# Altium footprint library cyusb3014.PcbLib: 5 footprints
Each footprint in its own frame and in the unit in brackets; x right, y up, seen from the top. Pads: shape width x height; smd on the part's side, far side on the other; paste and mask are expansions set on the pad; w line width, h text height; cw(c..) or ccw(c..) is an arc to the next point about the centre after c.
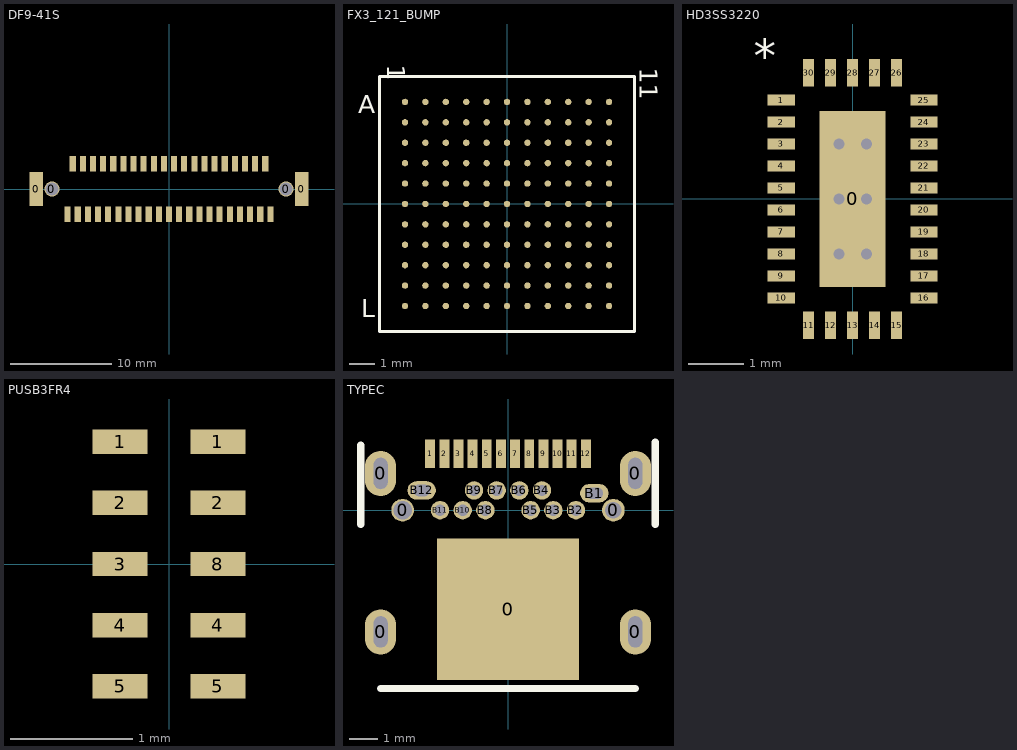
[diagram p0: the footprints below, top view; thin cyan lines are the x and y axes]

## DF9-41S [mm]
pads (45):
  rect 1.3x3.4 smd: 0(-13.1,0) 0(13.1,0)
  round 1.5 hole 1.3: 0(-11.55,0) 0(11.55,0)
  rect 0.6x1.5 smd: 1(-10,-2.5) 2(-9,-2.5) 3(-8,-2.5) 4(-7,-2.5) 5(-6,-2.5) 6(-5,-2.5) 7(-4,-2.5) 8(-3,-2.5) 9(-2,-2.5) 10(-1,-2.5) 11(0,-2.5) 12(1,-2.5) 13(2,-2.5) 14(3,-2.5) 15(4,-2.5) 16(5,-2.5) 17(6,-2.5) 18(7,-2.5) 19(8,-2.5) 20(9,-2.5) 21(10,-2.5) 22(9.5,2.5) 23(8.5,2.5) 24(7.5,2.5) 25(6.5,2.5) 26(5.5,2.5) 27(4.5,2.5) 28(3.5,2.5) 29(2.5,2.5) 30(1.5,2.5) 31(0.5,2.5) 32(-0.5,2.5) 33(-1.5,2.5) 34(-2.5,2.5) 35(-3.5,2.5) 36(-4.5,2.5) 37(-5.5,2.5) 38(-6.5,2.5) 39(-7.5,2.5) 40(-8.5,2.5) 41(-9.5,2.5)

## FX3_121_BUMP [mm] "FX3_121_BUMP"
pads (121):
  round 0.25 smd: A1(-3.999,3.999) A2(-3.199,3.999) A3(-2.4,3.999) A4(-1.6,3.999) A5(-0.8,3.999) A6(0,3.999) A7(0.8,3.999) A8(1.6,3.999) A9(2.4,3.999) A10(3.199,3.999) A11(3.999,3.999) B1(-3.999,3.199) B2(-3.199,3.199) B3(-2.4,3.199) B4(-1.6,3.199) B5(-0.8,3.199) B6(0,3.199) B7(0.8,3.199) B8(1.6,3.199) B9(2.4,3.199) B10(3.199,3.199) B11(3.999,3.199) C1(-3.999,2.4) C2(-3.199,2.4) C3(-2.4,2.4) C4(-1.6,2.4) C5(-0.8,2.4) C6(0,2.4) C7(0.8,2.4) C8(1.6,2.4) C9(2.4,2.4) C10(3.199,2.4) C11(3.999,2.4) D1(-3.999,1.6) D2(-3.199,1.6) D3(-2.4,1.6) D4(-1.6,1.6) D5(-0.8,1.6) D6(0,1.6) D7(0.8,1.6) D8(1.6,1.6) D9(2.4,1.6) D10(3.199,1.6) D11(3.999,1.6) E1(-3.999,0.8) E2(-3.199,0.8) E3(-2.4,0.8) E4(-1.6,0.8) E5(-0.8,0.8) E6(0,0.8) E7(0.8,0.8) E8(1.6,0.8) E9(2.4,0.8) E10(3.199,0.8) E11(3.999,0.8) F1(-3.999,0) F2(-3.199,0) F3(-2.4,0) F4(-1.6,0) F5(-0.8,0) F6(0,0) F7(0.8,0) F8(1.6,0) F9(2.4,0) F10(3.199,0) F11(3.999,0) G1(-3.999,-0.8) G2(-3.199,-0.8) G3(-2.4,-0.8) G4(-1.6,-0.8) G5(-0.8,-0.8) G6(0,-0.8) G7(0.8,-0.8) G8(1.6,-0.8) G9(2.4,-0.8) G10(3.199,-0.8) G11(3.999,-0.8) H1(-3.999,-1.6) H2(-3.199,-1.6) H3(-2.4,-1.6) H4(-1.6,-1.6) H5(-0.8,-1.6) H6(0,-1.6) H7(0.8,-1.6) H8(1.6,-1.6) H9(2.4,-1.6) H10(3.199,-1.6) H11(3.999,-1.6) J1(-3.999,-2.4) J2(-3.199,-2.4) J3(-2.4,-2.4) J4(-1.6,-2.4) J5(-0.8,-2.4) J6(0,-2.4) J7(0.8,-2.4) J8(1.6,-2.4) J9(2.4,-2.4) J10(3.199,-2.4) J11(3.999,-2.4) K1(-3.999,-3.199) K2(-3.199,-3.199) K3(-2.4,-3.199) K4(-1.6,-3.199) K5(-0.8,-3.199) K6(0,-3.199) K7(0.8,-3.199) K8(1.6,-3.199) K9(2.4,-3.199) K10(3.199,-3.199) K11(3.999,-3.199) L1(-3.999,-3.999) L2(-3.199,-3.999) L3(-2.4,-3.999) L4(-1.6,-3.999) L5(-0.8,-3.999) L6(0,-3.999) L7(0.8,-3.999) L8(1.6,-3.999) L9(2.4,-3.999) L10(3.199,-3.999) L11(3.999,-3.999)
Top Overlay:
  lines w0.127: -5,-5 5,-5 5,5 -5,5 -5,-5
  text "L" at -5.715,-4.445 h0.71
  text "A" at -5.842,3.556 h0.71
  text "11" at 5.207,5.334 h0.71
  text "1" at -4.699,5.461 h0.71
Mechanical 13:
  lines w0.127: -5,-5 5,-5 5,5 -5,5 -5,-5
Mechanical 32:
  text "E10" at 3.199,1.653 h0.71
  text "D11" at 3.999,2.453 h0.71
  text "A11" at 3.999,4.853 h0.71
  text "C9" at 2.4,2.968 h0.71
  text "F2" at -3.199,0.569 h0.71
  text "E3" at -2.4,1.369 h0.71
  text "F1" at -3.999,0.569 h0.71
  text "L9" at 2.4,-3.43 h0.71
  text "H11" at 3.999,-0.746 h0.71
  text "J4" at -1.6,-1.831 h0.71
  text "F4" at -1.6,0.569 h0.71
  text "J3" at -2.4,-1.831 h0.71
  text "J1" at -3.999,-1.831 h0.71
  text "E4" at -1.6,1.369 h0.71
  text "E5" at -0.8,1.369 h0.71
  text "G2" at -3.199,-0.231 h0.71
  text "F5" at -0.8,0.569 h0.71
  text "K2" at -3.199,-2.63 h0.71
  text "E1" at -3.999,1.369 h0.71
  text "G8" at 1.6,-0.231 h0.71
  text "L10" at 3.199,-3.146 h0.71
  text "F8" at 1.6,0.569 h0.71
  text "F3" at -2.4,0.569 h0.71
  text "K1" at -3.999,-2.63 h0.71
  text "J10" at 3.199,-1.546 h0.71
  text "G6" at 0,-0.231 h0.71
  text "K6" at 0,-2.63 h0.71
  text "K9" at 2.4,-2.63 h0.71
  text "J9" at 2.4,-1.831 h0.71
  text "F10" at 3.199,0.853 h0.71
  text "H9" at 2.4,-1.031 h0.71
  text "J5" at -0.8,-1.831 h0.71
  text "G9" at 2.4,-0.231 h0.71
  text "K11" at 3.999,-2.346 h0.71
  text "G10" at 3.199,0.054 h0.71
  text "H10" at 3.199,-0.746 h0.71
  text "J8" at 1.6,-1.831 h0.71
  text "K10" at 3.199,-2.346 h0.71
  text "F7" at 0.8,0.569 h0.71
  text "G5" at -0.8,-0.231 h0.71
  text "K5" at -0.8,-2.63 h0.71
  text "H8" at 1.6,-1.031 h0.71
  text "H6" at 0,-1.031 h0.71
  text "H5" at -0.8,-1.031 h0.71
  text "F9" at 2.4,0.569 h0.71
  text "H3" at -2.4,-1.031 h0.71
  text "G3" at -2.4,-0.231 h0.71
  text "H2" at -3.199,-1.031 h0.71
  text "J2" at -3.199,-1.831 h0.71
  text "B11" at 3.999,4.053 h0.71
  text "E8" at 1.6,1.369 h0.71
  text "C10" at 3.199,3.253 h0.71
  text "E7" at 0.8,1.369 h0.71
  text "F6" at 0,0.569 h0.71
  text "B6" at 0,3.768 h0.71
  text "D2" at -3.199,2.169 h0.71
  text "C4" at -1.6,2.968 h0.71
  text "C5" at -0.8,2.968 h0.71
  text "D1" at -3.999,2.169 h0.71
  text "D4" at -1.6,2.169 h0.71
  text "K8" at 1.6,-2.63 h0.71
  text "J6" at 0,-1.831 h0.71
  text "J7" at 0.8,-1.831 h0.71
  text "C8" at 1.6,2.968 h0.71
  text "B3" at -2.4,3.768 h0.71
  text "H7" at 0.8,-1.031 h0.71
  text "A5" at -0.8,4.568 h0.71
  text "G7" at 0.8,-0.231 h0.71
  text "A6" at 0,4.568 h0.71
  text "K7" at 0.8,-2.63 h0.71
  text "C2" at -3.199,2.968 h0.71
  text "D3" at -2.4,2.169 h0.71
  text "D5" at -0.8,2.169 h0.71
  text "D7" at 0.8,2.169 h0.71
  text "D6" at 0,2.169 h0.71
  text "C1" at -3.999,2.968 h0.71
  text "E9" at 2.4,1.369 h0.71
  text "B10" at 3.199,4.053 h0.71
  text "L7" at 0.8,-3.43 h0.71
  text "L5" at -0.8,-3.43 h0.71
  text "H1" at -3.999,-1.031 h0.71
  text "C3" at -2.4,2.968 h0.71
  text "J11" at 3.999,-1.546 h0.71
  text "F11" at 3.999,0.853 h0.71
  text "D9" at 2.4,2.169 h0.71
  text "D10" at 3.199,2.453 h0.71
  text "A4" at -1.6,4.568 h0.71
  text "E11" at 3.999,1.653 h0.71
  text "A7" at 0.8,4.568 h0.71
  text "A10" at 3.199,4.853 h0.71
  text "A9" at 2.4,4.568 h0.71
  text "A3" at -2.4,4.568 h0.71
  text "G4" at -1.6,-0.231 h0.71
  text "H4" at -1.6,-1.031 h0.71
  text "L8" at 1.6,-3.43 h0.71
  text "L4" at -1.6,-3.43 h0.71
  text "C7" at 0.8,2.968 h0.71
  text "B2" at -3.199,3.768 h0.71
  text "B4" at -1.6,3.768 h0.71
  text "E6" at 0,1.369 h0.71
  text "C6" at 0,2.968 h0.71
  text "B1" at -3.999,3.768 h0.71
  text "C11" at 3.999,3.253 h0.71
  text "A2" at -3.199,4.568 h0.71
  text "B5" at -0.8,3.768 h0.71
  text "L6" at 0,-3.43 h0.71
  text "A1" at -3.999,4.568 h0.71
  text "E2" at -3.199,1.369 h0.71
  text "L2" at -3.199,-3.43 h0.71
  text "L1" at -3.999,-3.43 h0.71
  text "K3" at -2.4,-2.63 h0.71
  text "G1" at -3.999,-0.231 h0.71
  text "K4" at -1.6,-2.63 h0.71
  text "L3" at -2.4,-3.43 h0.71
  text "A8" at 1.6,4.568 h0.71
  text "B8" at 1.6,3.768 h0.71
  text "B9" at 2.4,3.768 h0.71
  text "D8" at 1.6,2.169 h0.71
  text "B7" at 0.8,3.768 h0.71
  text "L11" at 3.999,-3.146 h0.71
  text "G11" at 3.999,0.054 h0.71
3D body: height 0.8, standoff 0, extent -4.953,-4.953 4.953,4.953

## HD3SS3220 [mm]
pads (31):
  rect 1.2x3.2 smd: 0(0,0)
  rect 0.5x0.2 smd: 1(-1.3,1.8) 2(-1.3,1.4) 3(-1.3,1) 4(-1.3,0.6) 5(-1.3,0.2) 6(-1.3,-0.2) 7(-1.3,-0.6) 8(-1.3,-1) 9(-1.3,-1.4) 10(-1.3,-1.8) 16(1.3,-1.8) 17(1.3,-1.4) 18(1.3,-1) 19(1.3,-0.6) 20(1.3,-0.2) 21(1.3,0.2) 22(1.3,0.6) 23(1.3,1) 24(1.3,1.4) 25(1.3,1.8)
  rect 0.2x0.5 smd: 11(-0.8,-2.3) 12(-0.4,-2.3) 13(0,-2.3) 14(0.4,-2.3) 15(0.8,-2.3) 26(0.8,2.3) 27(0.4,2.3) 28(0,2.3) 29(-0.4,2.3) 30(-0.8,2.3)
via -0.25,0 diameter 0.35 hole 0.2
via 0.25,0 diameter 0.35 hole 0.2
via 0.25,1 diameter 0.35 hole 0.2
via -0.25,1 diameter 0.35 hole 0.2
via -0.25,-1 diameter 0.35 hole 0.2
via 0.25,-1 diameter 0.35 hole 0.2
Top Overlay:
  text "*" at -1.803,2.311 h0.6
3D body: height 0.8, standoff 0, extent -1.25,-2.25 1.25,2.25

## PUSB3FR4 [mm]
pads (10):
  rect 0.45x0.2 smd: 1(-0.4,1) 1(0.4,1) 2(-0.4,0.5) 2(0.4,0.5) 3(-0.4,0) 4(-0.4,-0.5) 4(0.4,-0.5) 5(-0.4,-1) 5(0.4,-1) 8(0.4,0)
3D body: height 0.5, standoff 0, extent -0.5,-1.25 0.5,1.25

## TYPEC [mm]
pads (31):
  oval 1.1x1.6 hole 0.5 slot 1.1 at 90 deg: 0(-4.5,-4.3) 0(-4.5,1.3) 0(4.5,-4.3) 0(4.5,1.3)
  round 0.8 hole 0.65: 0(-3.725,0)
  rect 5x5 smd: 0(0,-3.5)
  round 0.8 hole 0.58: 0(3.725,0)
  rect 0.35x1 smd: 1(-2.75,2) 2(-2.25,2) 3(-1.75,2) 4(-1.25,2) 5(-0.75,2) 6(-0.25,2) 7(0.25,2) 8(0.75,2) 9(1.25,2) 10(1.75,2) 11(2.25,2) 12(2.75,2)
  oval 1x0.65 hole 0.4 slot 0.6 at 0 deg: B1(3.05,0.6) B12(-3.05,0.7)
  round 0.65 hole 0.4: B2(2.4,0) B3(1.6,0) B4(1.2,0.7) B5(0.8,0) B6(0.4,0.7) B7(-0.4,0.7) B8(-0.8,0) B9(-1.2,0.7) B10(-1.6,0) B11(-2.4,0)
Top Overlay:
  lines w0.254: -5.2,-0.5 -5.2,2.3 ; -4.5,-6.3 4.5,-6.3 ; 5.2,-0.5 5.2,2.4